# Altium footprint library SysPcbLib.PcbLib: 20 footprints (part 2 of 2)
Each footprint in its own frame and in the unit in brackets; x right, y up, seen from the top. Pads: shape width x height; smd on the part's side, far side on the other; paste and mask are expansions set on the pad; w line width, h text height; cw(c..) or ccw(c..) is an arc to the next point about the centre after c.
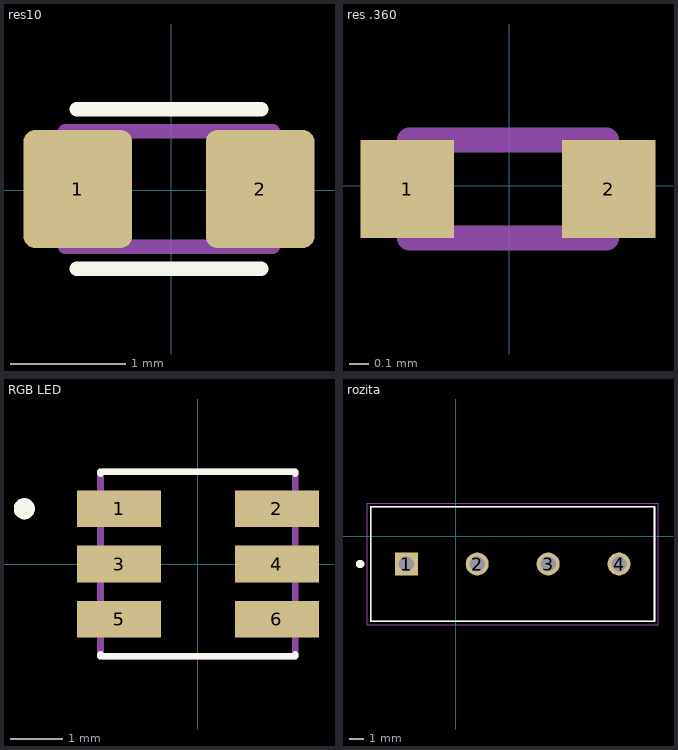
[diagram p1: the footprints below, top view; thin cyan lines are the x and y axes]

## res10 [mm]
pads (2):
  rrect20% 0.94x1.02 smd: 1(-0.808,0.012) 2(0.772,0.012)
Top Overlay:
  lines w0.127: -0.818,-0.678 0.782,-0.678 ; -0.818,0.702 0.782,0.702
Mechanical 29:
  lines w0.127: -0.918,-0.488 0.882,-0.488 0.882,0.512 -0.918,0.512 -0.918,-0.488
3D body "step_temp.STEP": height 0.55, standoff 0, extent -0.793,-0.388 0.757,0.412

## res .360 [mm]
pads (2):
  rect 0.475x0.5 smd: 1(-0.519,-0.017) 2(0.505,-0.017)
Mechanical 29:
  lines w0.127: -0.507,-0.267 -0.507,0.233 0.493,0.233 0.493,-0.267 -0.507,-0.267
3D body "ERA-2APB361X.STEP": height 0.35, standoff 0, extent -0.525,-0.225 0.475,0.275

## RGB LED [mm]
pads (6):
  rect 1.6x0.7 smd: 1(-1.5,1.05) 2(1.5,1.05) 3(-1.5,0) 4(1.5,0) 5(-1.5,-1.05) 6(1.5,-1.05)
Top Overlay:
  circle w0.2: c-3.3,1.05 r0.1
  lines w0.127: -1.85,-1.72 -1.85,-1.75 1.85,-1.75 1.85,-1.72 ; -1.85,1.72 -1.85,1.75 1.85,1.75 1.85,1.72
Mechanical 29:
  circle w0.2: c-3.3,1.05 r0.1
  lines w0.127: -1.85,-1.75 -1.85,1.75 1.85,1.75 1.85,-1.75 -1.85,-1.75
3D body "step_temp.STEP": height 2.77, standoff -0.03, extent -1.85,-1.75 1.85,1.75

## rozita [mm]
pads (4):
  rect 1.65x1.65 / inner round 1.65 / far side rect 1.65x1.65 hole 1.1: 1(-3.551,-1.97)
  round 1.65 hole 1.1: 2(1.529,-1.97) 3(6.609,-1.97) 4(11.689,-1.97)
Top Overlay:
  circle w0.3: c-6.861,-1.97 r0.15
  lines w0.127: -6.091,-6.07 14.229,-6.07 14.229,2.13 -6.091,2.13 -6.091,-6.07
Mechanical 29:
  circle w0.3: c-3.551,-1.97 r0.15
  lines w0.127: -6.091,-6.07 14.229,-6.07 14.229,2.13 -6.091,2.13 -6.091,-6.07
Mechanical 15:
  lines w0.05: -6.341,-6.32 -6.341,2.38 14.479,2.38 14.479,-6.32 -6.341,-6.32
3D body "step_temp.STEP": height 10.25, standoff -3.25, extent -6.58,-6.36 14.34,1.84